# Altium footprint library 5PIN_connecter.PcbLib: 1 footprints
Each footprint in its own frame and in the unit in brackets; x right, y up, seen from the top. Pads: shape width x height; smd on the part's side, far side on the other; paste and mask are expansions set on the pad; w line width, h text height; cw(c..) or ccw(c..) is an arc to the next point about the centre after c.
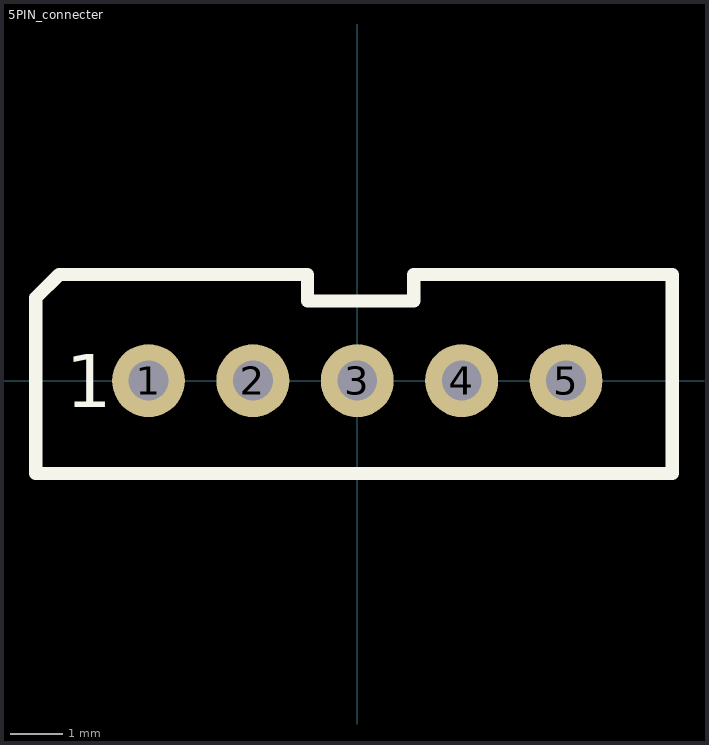
[diagram p0: the footprint, top view; thin cyan lines are the x and y axes]

## 5PIN_connecter [mil] "5pin连接器"
pads (5):
  round 55 hole 30: 1(-157.48,0) 2(-78.74,0) 3(0,0) 4(78.74,0) 5(157.48,0)
Top Overlay:
  lines w10: -242.48,-70 237.52,-70 237.52,80 42.52,80 42.52,60 -37.48,60 -37.48,80 -225,80 -242.48,62.52 -242.48,-70
  text "1" at -220,-20 h40